# EAGLE library part MC34067PG (library on-semiconductor-01)
High Performance Resonant Mode Controllers
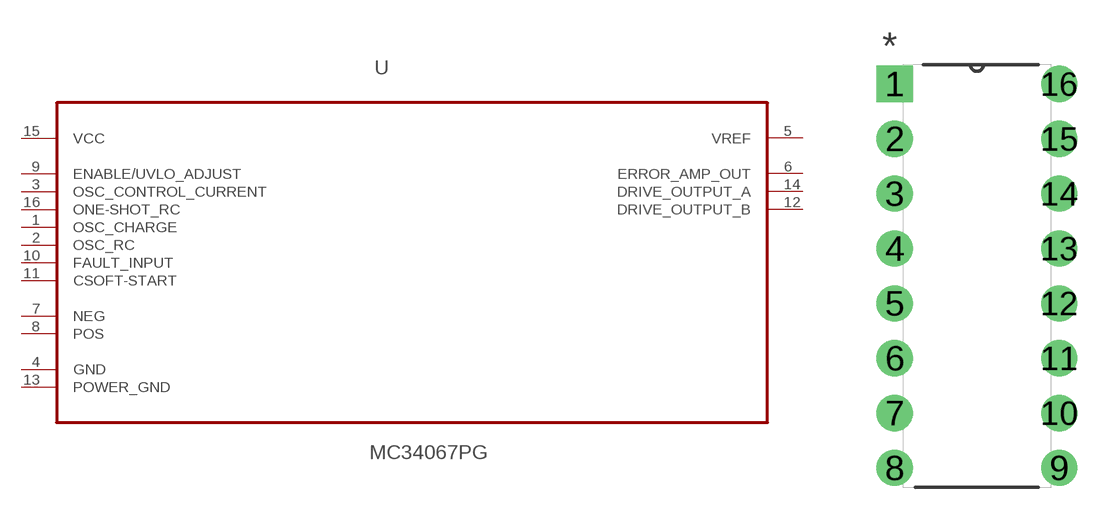
[diagram p392: symbol with the pads of DIP254P762X444-16; footprint DIP254P762X444-16]

Designator prefix U

## MC34067PG (MPN: MC34067PG; OC_FARNELL: 1652411; OC_NEWARK: 88H4731; PACKAGE: PDIP-16; SUPPLIER: ON SEMICONDUCTOR)  [DIP254P762X444-16]
1  OSC_CHARGE  in
2  OSC_RC  in
3  OSC_CONTROL_CURRENT  in
4  GND  pas
5  VREF  pas
6  ERROR_AMP_OUT  out
7  NEG  in
8  POS  in
9  ENABLE/UVLO_ADJUST  in
10  FAULT_INPUT  in
11  CSOFT-START  in
12  DRIVE_OUTPUT_B  out
13  POWER_GND  pas
14  DRIVE_OUTPUT_A  out
15  VCC  pwr
16  ONE-SHOT_RC  in

## Footprint DIP254P762X444-16 (pad centres in mm)
drill 1.118 square: 1 -7.62,17.78
drill 1.118: 2 -7.62,15.24; 3 -7.62,12.7; 4 -7.62,10.16; 5 -7.62,7.62; 6 -7.62,5.08; 7 -7.62,2.54; 8 -7.62,0; 9 0,0; 10 0,2.54; 11 0,5.08; 12 0,7.62; 13 0,10.16; 14 0,12.7; 15 0,15.24; 16 0,17.78